# EAGLE library part ICL3232ECAZ (library Intersil_By_element14_Batch_1)
RS-232 Transmitters/Receivers
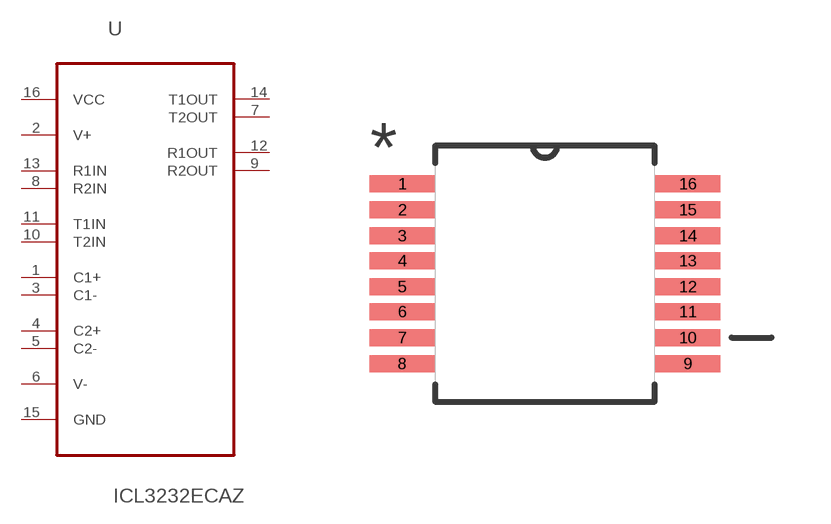
[diagram p170: symbol with the pads of SOP65P780X200-16N; footprint SOP65P780X200-16N]

Designator prefix U

## ICL3232ECAZ (MPN: ICL3232ECAZ; OC_FARNELL: 1561987; OC_NEWARK: 61J6138; PACKAGE: SSOP-16; SUPPLIER: INTERSIL)  [SOP65P780X200-16N]
1  C1+  pas
2  V+  pwr
3  C1-  pas
4  C2+  pas
5  C2-  pas
6  V-  pwr
7  T2OUT  out
8  R2IN  in
9  R2OUT  out
10  T2IN  in
11  T1IN  in
12  R1OUT  out
13  R1IN  in
14  T1OUT  out
15  GND  pas
16  VCC  pwr

## Footprint SOP65P780X200-16N (pad centres in mm)
smd 1.651 x 0.432: 1 -3.632,2.286; 2 -3.632,1.626; 3 -3.632,0.965; 4 -3.632,0.33; 5 -3.632,-0.33; 6 -3.632,-0.965; 7 -3.632,-1.626; 8 -3.632,-2.286; 9 3.632,-2.286; 10 3.632,-1.626; 11 3.632,-0.965; 12 3.632,-0.33; 13 3.632,0.33; 14 3.632,0.965; 15 3.632,1.626; 16 3.632,2.286